# EAGLE library part VS1000 (library vlsi-web-e7)
Ogg Vorbis Player System Circuit
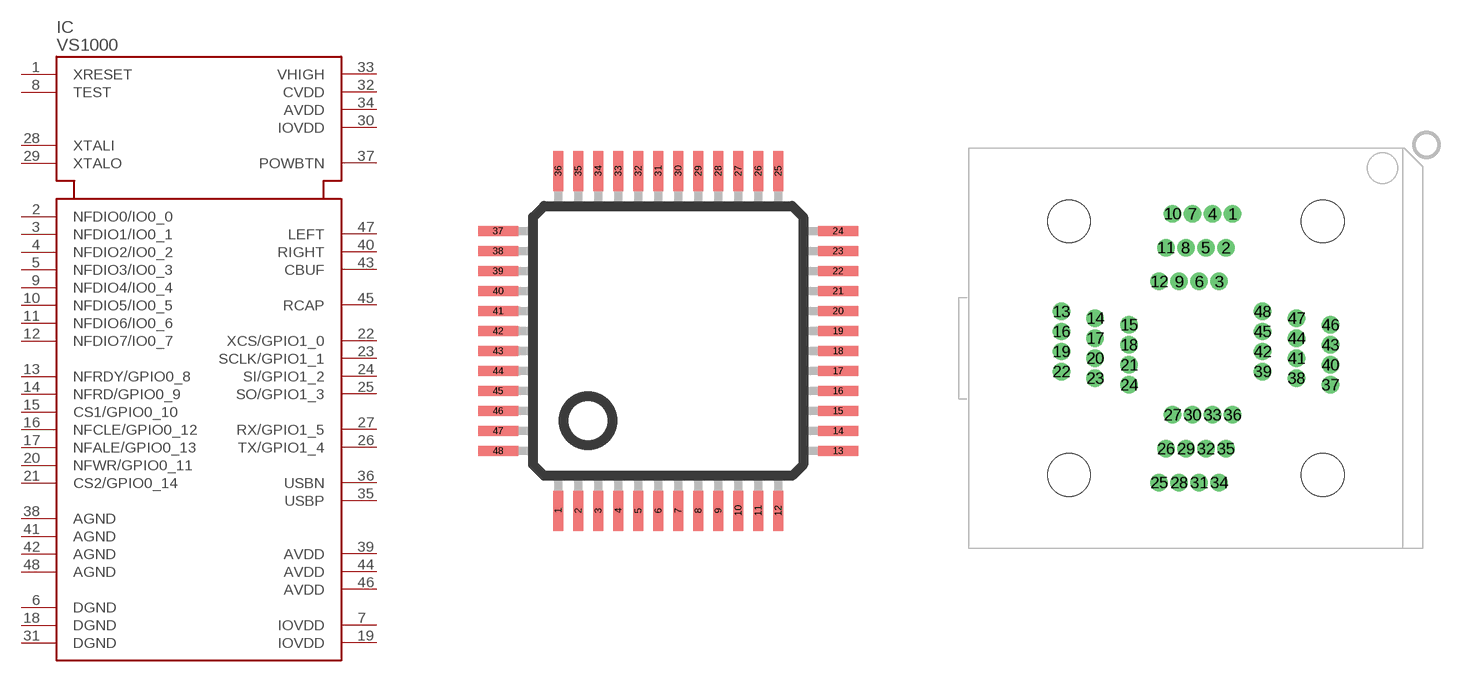
[diagram p0: symbol with the pads of LQFP48; footprints LQFP48, QFP48SCK_OK]

Designator prefix IC

## VS1000-L  [LQFP48]
1  XRESET  in
2  NFDIO0/IO0_0
3  NFDIO1/IO0_1
4  NFDIO2/IO0_2
5  NFDIO3/IO0_3
6  DGND  pas
7  IOVDD  pwr
8  TEST  in
9  NFDIO4/IO0_4
10  NFDIO5/IO0_5
11  NFDIO6/IO0_6
12  NFDIO7/IO0_7
13  NFRDY/GPIO0_8
14  NFRD/GPIO0_9
15  CS1/GPIO0_10
16  NFCLE/GPIO0_12
17  NFALE/GPIO0_13
18  DGND  pas
19  IOVDD  pwr
20  NFWR/GPIO0_11
21  CS2/GPIO0_14
22  XCS/GPIO1_0
23  SCLK/GPIO1_1
24  SI/GPIO1_2
25  SO/GPIO1_3
26  TX/GPIO1_4
27  RX/GPIO1_5
28  XTALI  in
29  XTALO  out
30  IOVDD  pwr
31  DGND  pas
32  CVDD  pwr
33  VHIGH  pwr
34  AVDD  pwr
35  USBP
36  USBN
37  POWBTN
38  AGND  pas
39  AVDD  pwr
40  RIGHT  out
41  AGND  pas
42  AGND  pas
43  CBUF  out
44  AVDD  pwr
45  RCAP
46  AVDD  pwr
47  LEFT  out
48  AGND  pas

## VS1000-SOCKET  [QFP48SCK_OK]
Pads as for LQFP48

## Footprint LQFP48 (pad centres in mm)
48-pin plastic QFP (LQFP,MQFP,PQFP)
smd 0.25 x 1: 1 -2.75,-4.25; 2 -2.25,-4.25; 3 -1.75,-4.25; 4 -1.25,-4.25; 5 -0.75,-4.25; 6 -0.25,-4.25; 7 0.25,-4.25; 8 0.75,-4.25; 9 1.25,-4.25; 10 1.75,-4.25; 11 2.25,-4.25; 12 2.75,-4.25; 25 2.75,4.25; 26 2.25,4.25; 27 1.75,4.25; 28 1.25,4.25; 29 0.75,4.25; 30 0.25,4.25; 31 -0.25,4.25; 32 -0.75,4.25; 33 -1.25,4.25; 34 -1.75,4.25; 35 -2.25,4.25; 36 -2.75,4.25
smd 1 x 0.25: 13 4.25,-2.75; 14 4.25,-2.25; 15 4.25,-1.75; 16 4.25,-1.25; 17 4.25,-0.75; 18 4.25,-0.25; 19 4.25,0.25; 20 4.25,0.75; 21 4.25,1.25; 22 4.25,1.75; 23 4.25,2.25; 24 4.25,2.75; 37 -4.25,2.75; 38 -4.25,2.25; 39 -4.25,1.75; 40 -4.25,1.25; 41 -4.25,0.75; 42 -4.25,0.25; 43 -4.25,-0.25; 44 -4.25,-0.75; 45 -4.25,-1.25; 46 -4.25,-1.75; 47 -4.25,-2.25; 48 -4.25,-2.75

## Footprint QFP48SCK_OK (pad centres in mm)
Socket for QFP-48
drill 0.8: 1 2.75,10.08; 2 2.25,7.54; 3 1.75,5; 4 1.25,10.08; 5 0.75,7.54; 6 0.25,5; 7 -0.25,10.08; 8 -0.75,7.54; 9 -1.25,5; 10 -1.75,10.08; 11 -2.25,7.54; 12 -2.75,5; 13 -10.08,2.75; 14 -7.54,2.25; 15 -5,1.75; 16 -10.08,1.25; 17 -7.54,0.75; 18 -5,0.25; 19 -10.08,-0.25; 20 -7.54,-0.75; 21 -5,-1.25; 22 -10.08,-1.75; 23 -7.54,-2.25; 24 -5,-2.75; 25 -2.75,-10.08; 26 -2.25,-7.54; 27 -1.75,-5; 28 -1.25,-10.08; 29 -0.75,-7.54; 30 -0.25,-5; 31 0.25,-10.08; 32 0.75,-7.54; 33 1.25,-5; 34 1.75,-10.08; 35 2.25,-7.54; 36 2.75,-5; 37 10.08,-2.75; 38 7.54,-2.25; 39 5,-1.75; 40 10.08,-1.25; 41 7.54,-0.75; 42 5,-0.25; 43 10.08,0.25; 44 7.54,0.75; 45 5,1.25; 46 10.08,1.75; 47 7.54,2.25; 48 5,2.75
hole 3.2 at 9.5,9.5
hole 3.2 at 9.5,-9.5
hole 3.2 at -9.5,-9.5
hole 3.2 at -9.5,9.5